# EAGLE library part ESP-12F (library esp-12f)
ESP-12F ESP8266 Wifi Wireless IoT Board Module , package 1 x ESP8266 Adapter Plate 1pcs Source: Datasheet <https://docs.ai-thinker.com/_media/esp8266/docs/esp-12f_product_specification_en.pdf>
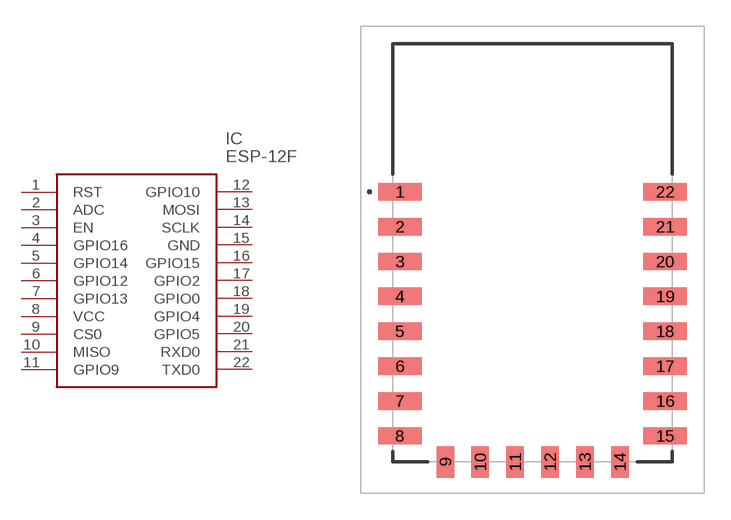
[diagram p0: symbol with the pads of esp12f; footprint esp12f]

Designator prefix IC

## ESP-12F (Description: ESP-12F ESP8266 Wifi Wireless IoT Board Module , package 1 x ESP8266 Adapter Plate 1pcs; Height: 3.1mm; Manufacturer_Name: Ai-Thinker; Manufacturer_Part_Number: esp-12f)  [esp12f]
1  RST
2  ADC
3  EN
4  GPIO16
5  GPIO14
6  GPIO12
7  GPIO13
8  VCC
9  CS0
10  MISO
11  GPIO9
12  GPIO10
13  MOSI
14  SCLK
15  GND
16  GPIO15
17  GPIO2
18  GPIO0
19  GPIO4
20  GPIO5
21  RXD0
22  TXD0

## Footprint esp12f (pad centres in mm)
esp-12f-1
smd 2.5 x 1: 1 -7.6,3.5; 2 -7.6,1.5; 3 -7.6,-0.5; 4 -7.6,-2.5; 5 -7.6,-4.5; 6 -7.6,-6.5; 7 -7.6,-8.5; 8 -7.6,-10.5; 15 7.6,-10.5; 16 7.6,-8.5; 17 7.6,-6.5; 18 7.6,-4.5; 19 7.6,-2.5; 20 7.6,-0.5; 21 7.6,1.5; 22 7.6,3.5
smd 1 x 1.8: 9 -5,-12; 10 -3,-12; 11 -1,-12; 12 1,-12; 13 3,-12; 14 5,-12